# Altium schematic symbol library ESP32-MINI-1-H4.SchLib: 1 symbol
Pins are listed as number, name and electrical type; pins without a type are passive.

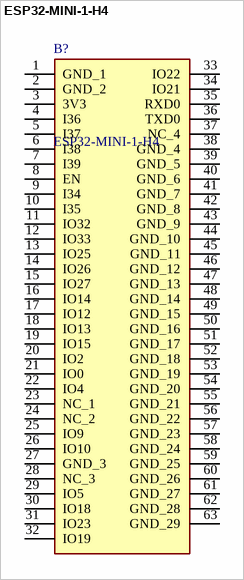
[diagram p0: symbol ESP32-MINI-1-H4]

## ESP32-MINI-1-H4
designator B?
Multiprotocol Modules SMD module, ESP32-U4WDH with 4 MB flash die inside, PCB antenna, -40C - +105C; Manufacturer_Name: Espressif Systems; Geometry.Height: 2.55mm; Manufacturer_Part_Number: ESP32-MINI-1-H4; Mouser Part Number: 356-ESP32-MINI1PS3Q0; Mouser Price/Stock: https://www.mouser.co.uk/ProductDetail/Espressif-Systems/ESP32-MINI-1-H4?qs=DRkmTr78QAQYqPw9WQ7Pvw%3D%3D; Arrow Part Number: *; Arrow Price/Stock: *; Datasheet Link: https://www.espressif.com/sites/default/files/documentation/esp32-mini-1_datasheet_en.pdf
footprint ESP32MINI1H4
pins: 1 GND_1, 2 GND_2, 3 3V3, 4 I36, 5 I37, 6 I38, 7 I39, 8 EN, 9 I34, 10 I35, 11 IO32, 12 IO33, 13 IO25, 14 IO26, 15 IO27, 16 IO14, 17 IO12, 18 IO13, 19 IO15, 20 IO2, 21 IO0, 22 IO4, 23 NC_1, 24 NC_2, 25 IO9, 26 IO10, 27 GND_3, 28 NC_3, 29 IO5, 30 IO18, 31 IO23, 32 IO19, 33 IO22, 34 IO21, 35 RXD0, 36 TXD0, 37 NC_4, 38 GND_4, 39 GND_5, 40 GND_6, 41 GND_7, 42 GND_8, 43 GND_9, 44 GND_10, 45 GND_11, 46 GND_12, 47 GND_13, 48 GND_14, 49 GND_15, 50 GND_16, 51 GND_17, 52 GND_18, 53 GND_19, 54 GND_20, 55 GND_21, 56 GND_22, 57 GND_23, 58 GND_24, 59 GND_25, 60 GND_26, 61 GND_27, 62 GND_28, 63 GND_29